# Altium schematic symbol library Diode.SchLib: 1 symbol
Pins are listed as number, name and electrical type; pins without a type are passive.

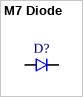
[diagram p0: symbol M7 Diode]

## M7 Diode
designator D?  (value not drawn)
Diode Standard 400V 1A Surface Mount SMA _DO-214AC_; MF: ON Semiconductor; MP: S1G; Price: None; Value: *; Availability: Unavailable; SnapEDA_Link: https://www.snapeda.com/parts/S1G/ON%20Semiconductor/view-part/1474196/?ref=snap; Package: DO-214AC ON Semiconductor
footprint SMA
pins: ANNODE, CATHODE